# EAGLE library part 1-1825006-5 (library Switches)
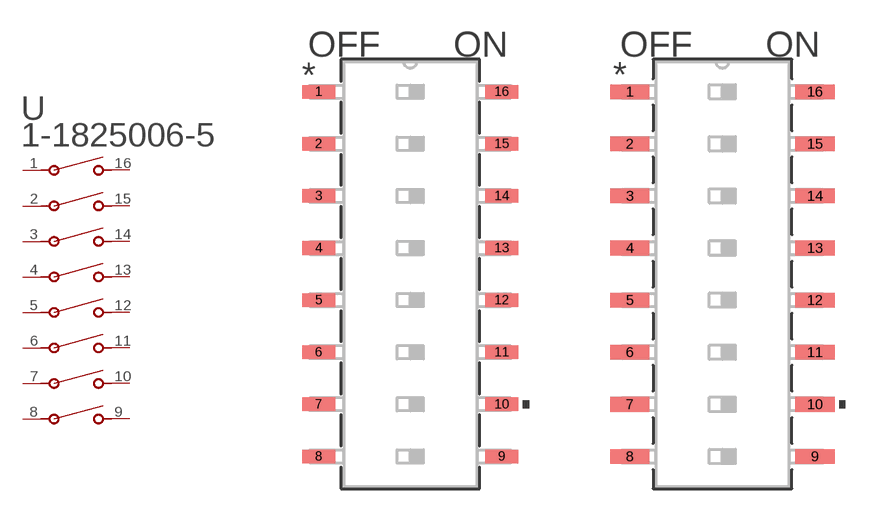
[diagram p45: symbol with the pads of SWSO16_386X100P100; footprints SWSO16_386X100P100, SWSO16_386X100P100-M]

Designator prefix U

## 1-1825006-5 (BUILT_BY: EMA_UL_Team; CATEGORY: DIP & SIP Switches; COPYRIGHT: Copyright (C) 2016 Accelerated Designs. All rights reserved; DESCRIPTION: GDS08S04=DIP SW,SLIDE,SMT; MANUFACTURER_PART_NUMBER: 1-1825006-5; PART_STATUS: active; SERIES: Alcoswitch DIP,Alcoswitch DIP GDS; VENDOR: TE Connectivity)  [SWSO16_386X100P100]
1  1  pas
2  2  pas
3  3  pas
4  4  pas
5  5  pas
6  6  pas
7  7  pas
8  8  pas
9  9  pas
10  10  pas
11  11  pas
12  12  pas
13  13  pas
14  14  pas
15  15  pas
16  16  pas

## 1-1825006-5SWSO16_386X100P100-M (BUILT_BY: EMA_UL_Team; CATEGORY: DIP & SIP Switches; COPYRIGHT: Copyright (C) 2016 Accelerated Designs. All rights reserved; DESCRIPTION: GDS08S04=DIP SW,SLIDE,SMT; MANUFACTURER_PART_NUMBER: 1-1825006-5; PART_STATUS: active; SERIES: Alcoswitch DIP,Alcoswitch DIP GDS; VENDOR: TE Connectivity)  [SWSO16_386X100P100-M]
Pads as for SWSO16_386X100P100

## 1-1825006-5SWSO16_386X100P100-L (BUILT_BY: EMA_UL_Team; CATEGORY: DIP & SIP Switches; COPYRIGHT: Copyright (C) 2016 Accelerated Designs. All rights reserved; DESCRIPTION: GDS08S04=DIP SW,SLIDE,SMT; MANUFACTURER_PART_NUMBER: 1-1825006-5; PART_STATUS: active; SERIES: Alcoswitch DIP,Alcoswitch DIP GDS; VENDOR: TE Connectivity)  [SWSO16_386X100P100-L]
Pads as for SWSO16_386X100P100

## Footprint SWSO16_386X100P100 (pad centres in mm)
smd 1.6 x 0.66: 1 -4.458,8.89; 2 -4.458,6.35; 3 -4.458,3.81; 4 -4.458,1.27; 5 -4.458,-1.27; 6 -4.458,-3.81; 7 -4.458,-6.35; 8 -4.458,-8.89; 9 4.458,-8.89; 10 4.458,-6.35; 11 4.458,-3.81; 12 4.458,-1.27; 13 4.458,1.27; 14 4.458,3.81; 15 4.458,6.35; 16 4.458,8.89

## Footprint SWSO16_386X100P100-M (pad centres in mm)
smd 1.905 x 0.711: 1 -4.508,8.89; 2 -4.508,6.35; 3 -4.508,3.81; 4 -4.508,1.27; 5 -4.508,-1.27; 6 -4.508,-3.81; 7 -4.508,-6.35; 8 -4.508,-8.89; 9 4.508,-8.89; 10 4.508,-6.35; 11 4.508,-3.81; 12 4.508,-1.27; 13 4.508,1.27; 14 4.508,3.81; 15 4.508,6.35; 16 4.508,8.89

## Footprint SWSO16_386X100P100-L (pad centres in mm)
smd 1.295 x 0.61: 1 -4.407,8.89; 2 -4.407,6.35; 3 -4.407,3.81; 4 -4.407,1.27; 5 -4.407,-1.27; 6 -4.407,-3.81; 7 -4.407,-6.35; 8 -4.407,-8.89; 9 4.407,-8.89; 10 4.407,-6.35; 11 4.407,-3.81; 12 4.407,-1.27; 13 4.407,1.27; 14 4.407,3.81; 15 4.407,6.35; 16 4.407,8.89